# Altium schematic symbol library BNX024.SchLib: 1 symbol
Pins are listed as number, name and electrical type; pins without a type are passive.

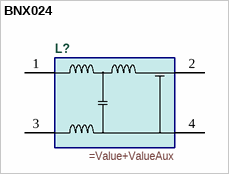
[diagram p0: symbol BNX024]

## BNX024
designator L?
=Description
pins: 1 B, 2 CB, 3 PSG, 4 CG